# Altium schematic symbol library POWER5-3.3.SchLib: 1 symbol
Pins are listed as number, name and electrical type; pins without a type are passive.

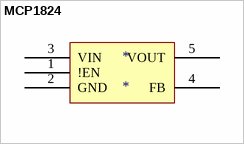
[diagram p0: symbol MCP1824]

## MCP1824
designator *
pins: 1 !EN, 2 GND, 3 VIN, 4 FB, 5 VOUT